# EAGLE library part TB6612-BREAKOUT-MOTOR-CONTROLLER (library SparkFun-Boards-Expanded)
TB6612 breakout headers
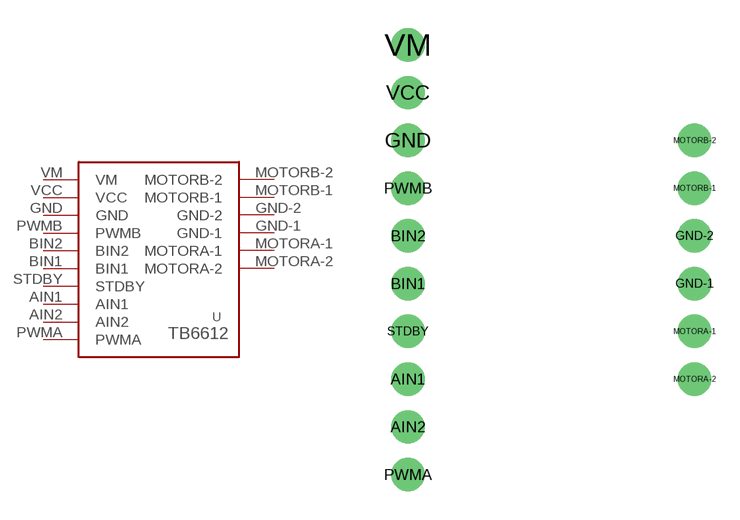
[diagram p24: symbol with the pads of TB6612-HEADERS; footprint TB6612-HEADERS]

Designator prefix -

## TB6612-BREAKOUT-MOTOR-CONTROLLER  [TB6612-HEADERS]
AIN1  AIN1
AIN2  AIN2
BIN1  BIN1
BIN2  BIN2
GND  GND
GND-1  GND-1
GND-2  GND-2
MOTORA-1  MOTORA-1
MOTORA-2  MOTORA-2
MOTORB-1  MOTORB-1
MOTORB-2  MOTORB-2
PWMA  PWMA
PWMB  PWMB
STDBY  STDBY
VCC  VCC
VM  VM

## Footprint TB6612-HEADERS (pad centres in mm)
drill 1.016 pad 1.778: AIN1 -7.62,-6.35; AIN2 -7.62,-8.89; BIN1 -7.62,-1.27; BIN2 -7.62,1.27; GND -7.62,6.35; GND-1 7.62,-1.27; GND-2 7.62,1.27; MOTORA-1 7.62,-3.81; MOTORA-2 7.62,-6.35; MOTORB-1 7.62,3.81; MOTORB-2 7.62,6.35; PWMA -7.62,-11.43; PWMB -7.62,3.81; STDBY -7.62,-3.81; VCC -7.62,8.89; VM -7.62,11.43